# EAGLE library part AS5047D (library stepper_servo_prototype_1)
AMS: AS5047D-ATSM Mouser: 985-AS5047D-ATSM
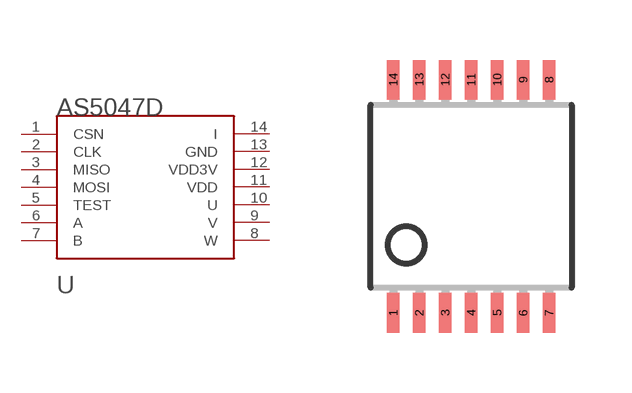
[diagram p0: symbol with the pads of TSSOP14; footprint TSSOP14]

Designator prefix -

## AS5047D  [TSSOP14]
1  CSN
2  CLK
3  MISO
4  MOSI
5  TEST
6  A
7  B
8  W
9  V
10  U
11  VDD
12  VDD3V
13  GND
14  I

## Footprint TSSOP14 (pad centres in mm)
Thin Shrink Small Outline Plastic 14
smd 0.305 x 0.991: 1 -1.95,-2.918; 2 -1.3,-2.918; 3 -0.65,-2.918; 4 0,-2.918; 5 0.65,-2.918; 6 1.3,-2.918; 7 1.95,-2.918; 8 1.95,2.918; 9 1.3,2.918; 10 0.65,2.918; 11 0,2.918; 12 -0.65,2.918; 13 -1.3,2.918; 14 -1.95,2.918